# EAGLE library part SP3223EEY-L (library Exar_By_element14_Batch_1)
Transceivers
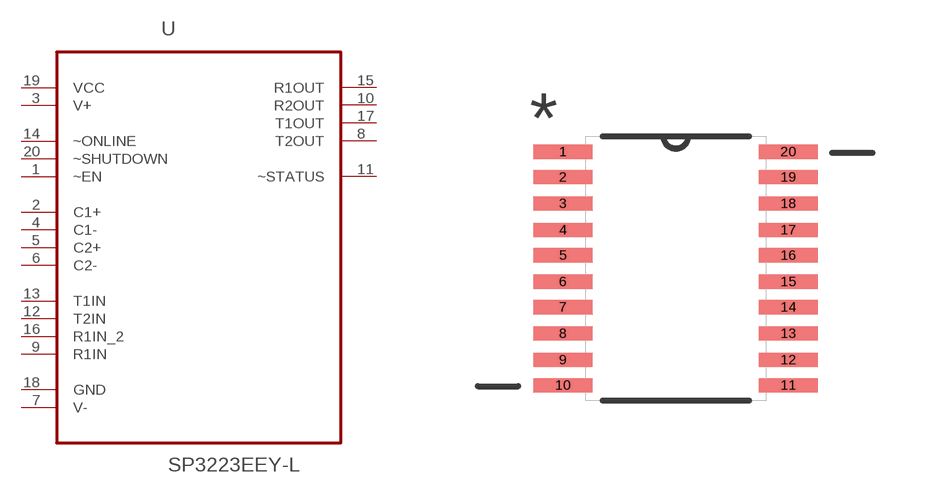
[diagram p21: symbol with the pads of SOP65P640X120-20N; footprint SOP65P640X120-20N]

Designator prefix U

## SP3223EEY-L (MPN: SP3223EEY-L; OC_FARNELL: 9386831; OC_NEWARK: 24R0308; PACKAGE: TSSOP-20; SUPPLIER: Exar)  [SOP65P640X120-20N]
1  ~EN  in
2  C1+  pas
3  V+  pwr
4  C1-  pas
5  C2+  pas
6  C2-  pas
7  V-  pwr
8  T2OUT  out
9  R1IN  in
10  R2OUT  out
11  ~STATUS  out
12  T2IN  in
13  T1IN  in
14  ~ONLINE  pas
15  R1OUT  out
16  R1IN_2  in
17  T1OUT  out
18  GND  pas
19  VCC  pwr
20  ~SHUTDOWN  in

## Footprint SOP65P640X120-20N (pad centres in mm)
smd 1.473 x 0.356: 1 -2.819,2.921; 2 -2.819,2.286; 3 -2.819,1.626; 4 -2.819,0.965; 5 -2.819,0.33; 6 -2.819,-0.33; 7 -2.819,-0.965; 8 -2.819,-1.626; 9 -2.819,-2.286; 10 -2.819,-2.921; 11 2.819,-2.921; 12 2.819,-2.286; 13 2.819,-1.626; 14 2.819,-0.965; 15 2.819,-0.33; 16 2.819,0.33; 17 2.819,0.965; 18 2.819,1.626; 19 2.819,2.286; 20 2.819,2.921